# Altium schematic symbol library res_cs4term.SchLib: 1 symbol
Pins are listed as number, name and electrical type; pins without a type are passive.

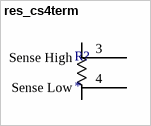
[diagram p0: symbol res_cs4term]

## res_cs4term
designator R?
footprint chip_4026_CS_BOURNS
pins: 1, 2, 3 Sense High, 4 Sense Low